# EAGLE library part TEENSY3_6--ALLPINS (library Teensy_3_6)
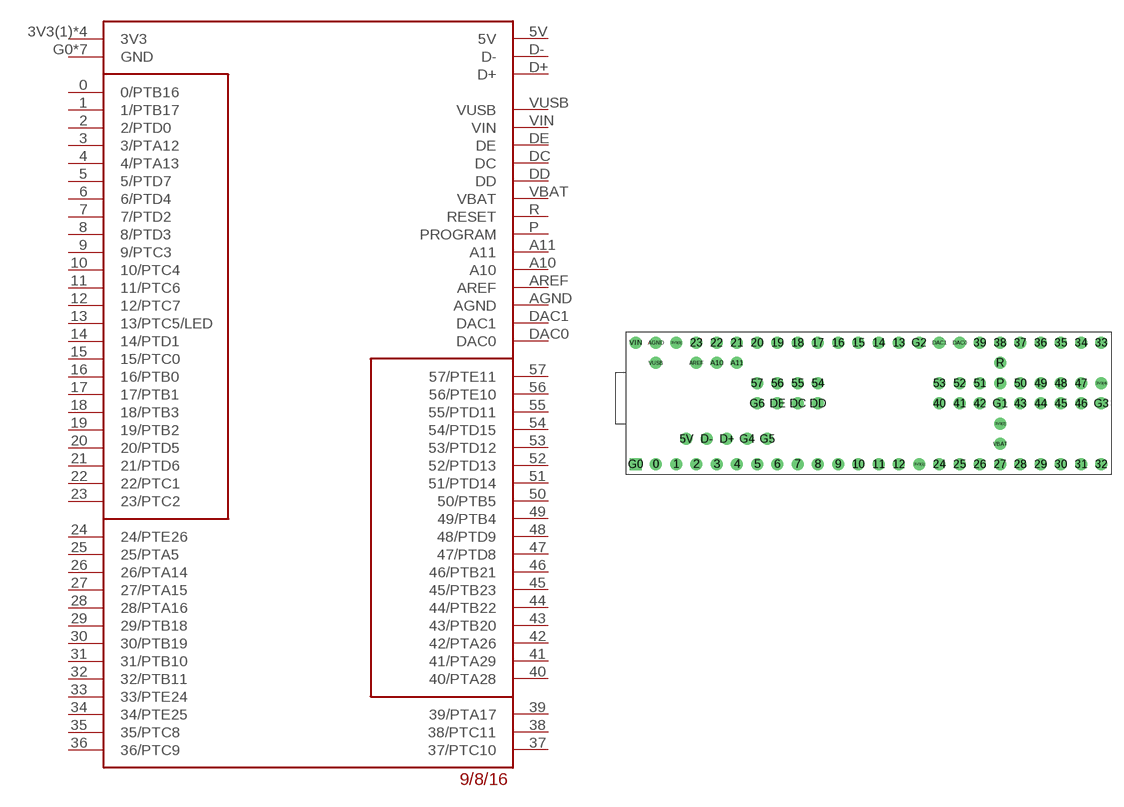
[diagram p0: symbol with the pads of T36; footprint T36]

Designator prefix B$

## TEENSY3_6--ALLPINS  [T36]
0  0/PTB16
1  1/PTB17
2  2/PTD0
3  3/PTA12
3V3(1)  3V3
3V3(2)  3V3
3V3(3)  3V3
3V3(4)  3V3
4  4/PTA13
5  5/PTD7
5V  5V
6  6/PTD4
7  7/PTD2
8  8/PTD3
9  9/PTC3
10  10/PTC4
11  11/PTC6
12  12/PTC7
13  13/PTC5/LED
14  14/PTD1
15  15/PTC0
16  16/PTB0
17  17/PTB1
18  18/PTB3
19  19/PTB2
20  20/PTD5
21  21/PTD6
22  22/PTC1
23  23/PTC2
24  24/PTE26
25  25/PTA5
26  26/PTA14
27  27/PTA15
28  28/PTA16
29  29/PTB18
30  30/PTB19
31  31/PTB10
32  32/PTB11
33  33/PTE24
34  34/PTE25
35  35/PTC8
36  36/PTC9
37  37/PTC10
38  38/PTC11
39  39/PTA17
40  40/PTA28
41  41/PTA29
42  42/PTA26
43  43/PTB20
44  44/PTB22
45  45/PTB23
46  46/PTB21
47  47/PTD8
48  48/PTD9
49  49/PTB4
50  50/PTB5
51  51/PTD14
52  52/PTD13
53  53/PTD12
54  54/PTD15
55  55/PTD11
56  56/PTE10
57  57/PTE11
A10  A10
A11  A11
AGND  AGND
AREF  AREF
D+  D+
D-  D-
DAC0  DAC0
DAC1  DAC1
DC  DC
DD  DD
DE  DE
G0  GND
G1  GND
G2  GND
G3  GND
G4  GND
G5  GND
G6  GND
P  PROGRAM
R  RESET
VBAT  VBAT
VIN  VIN
VUSB  VUSB

## Footprint T36 (pad centres in mm)
drill 1: 0 -15.24,-5.08; 1 -12.7,-5.08; 2 -10.16,-5.08; 3 -7.62,-5.08; 3V3(1) 17.78,-5.08; 3V3(2) 27.94,0; 3V3(3) -12.7,10.16; 3V3(4) 40.64,5.08; 4 -5.08,-5.08; 5 -2.54,-5.08; 5V -11.43,-1.905; 6 0,-5.08; 7 2.54,-5.08; 8 5.08,-5.08; 9 7.62,-5.08; 10 10.16,-5.08; 11 12.7,-5.08; 12 15.24,-5.08; 13 15.24,10.16; 14 12.7,10.16; 15 10.16,10.16; 16 7.62,10.16; 17 5.08,10.16; 18 2.54,10.16; 19 0,10.16; 20 -2.54,10.16; 21 -5.08,10.16; 22 -7.62,10.16; 23 -10.16,10.16; 24 20.32,-5.08; 25 22.86,-5.08; 26 25.4,-5.08; 27 27.94,-5.08; 28 30.48,-5.08; 29 33.02,-5.08; 30 35.56,-5.08; 31 38.1,-5.08; 32 40.64,-5.08; 33 40.64,10.16; 34 38.1,10.16; 35 35.56,10.16; 36 33.02,10.16; 37 30.48,10.16; 38 27.94,10.16; 39 25.4,10.16; 40 20.32,2.54; 41 22.86,2.54; 42 25.4,2.54; 43 30.48,2.54; 44 33.02,2.54; 45 35.56,2.54; 46 38.1,2.54; 47 38.1,5.08; 48 35.56,5.08; 49 33.02,5.08; 50 30.48,5.08; 51 25.4,5.08; 52 22.86,5.08; 53 20.32,5.08; 54 5.08,5.08; 55 2.54,5.08; 56 0,5.08; 57 -2.54,5.08; A10 -7.62,7.62; A11 -5.08,7.62; AGND -15.24,10.16; AREF -10.16,7.62; D+ -6.35,-1.905; D- -8.89,-1.905; DAC0 22.86,10.16; DAC1 20.32,10.16; DC 2.54,2.54; DD 5.08,2.54; DE 0,2.54; G1 27.94,2.54; G2 17.78,10.16; G3 40.64,2.54; G4 -3.81,-1.905; G5 -1.27,-1.905; G6 -2.54,2.54; P 27.94,5.08; R 27.94,7.62; VBAT 27.94,-2.54; VIN -17.78,10.16; VUSB -15.24,7.62
drill 1 square: G0 -17.78,-5.08